# EAGLE library part 750342178 (library isystems-würth)
MID-ITIFBK Fly-Buck Transformer Ui:17-32V UO1:15V IO1:100mA UO2:5V IO2:50mA UO3:15V IO3:100mA UO4:5V IO4:50mA L: 50µH ISAT: 1.5A Npri:NSEC:NAUX: 1:1.935:1.935 fswitch:250Hz Flybuck™ topology Low cost and high efficiency Operating Temp: -40°C to +125°C Dielectric withstand voltage of 1500VAC for 1 minute Excellent leakage inductance and interwinding capacitance performance MID-ITIFBK Industrial Texas Instruments Fly-Buck™ Transformers <http://katalog.we-online.de/de/ctm/MID-ITIFBK>
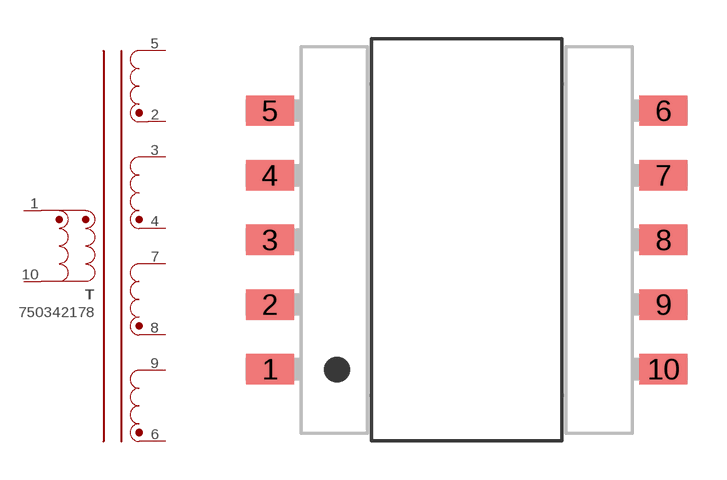
[diagram p0: symbol with the pads of ER9505; footprint ER9505]

Designator prefix T

## 750342178  [ER9505]
1  1
2  2
3  3
4  4
5  5
6  6
7  7
8  8
9  9
10  10

## Footprint ER9505 (pad centres in mm)
smd 1.85 x 1.17: 1 -7.58,-4.98; 2 -7.58,-2.49; 3 -7.58,0; 4 -7.58,2.49; 5 -7.58,4.98; 6 7.58,4.98; 7 7.58,2.49; 8 7.58,0; 9 7.58,-2.49; 10 7.58,-4.98